# Altium footprint library consubd.PcbLib: 91 footprints (part 5 of 6)
Each footprint in its own frame and in the unit in brackets; x right, y up, seen from the top. Pads: shape width x height; smd on the part's side, far side on the other; paste and mask are expansions set on the pad; w line width, h text height; cw(c..) or ccw(c..) is an arc to the next point about the centre after c.
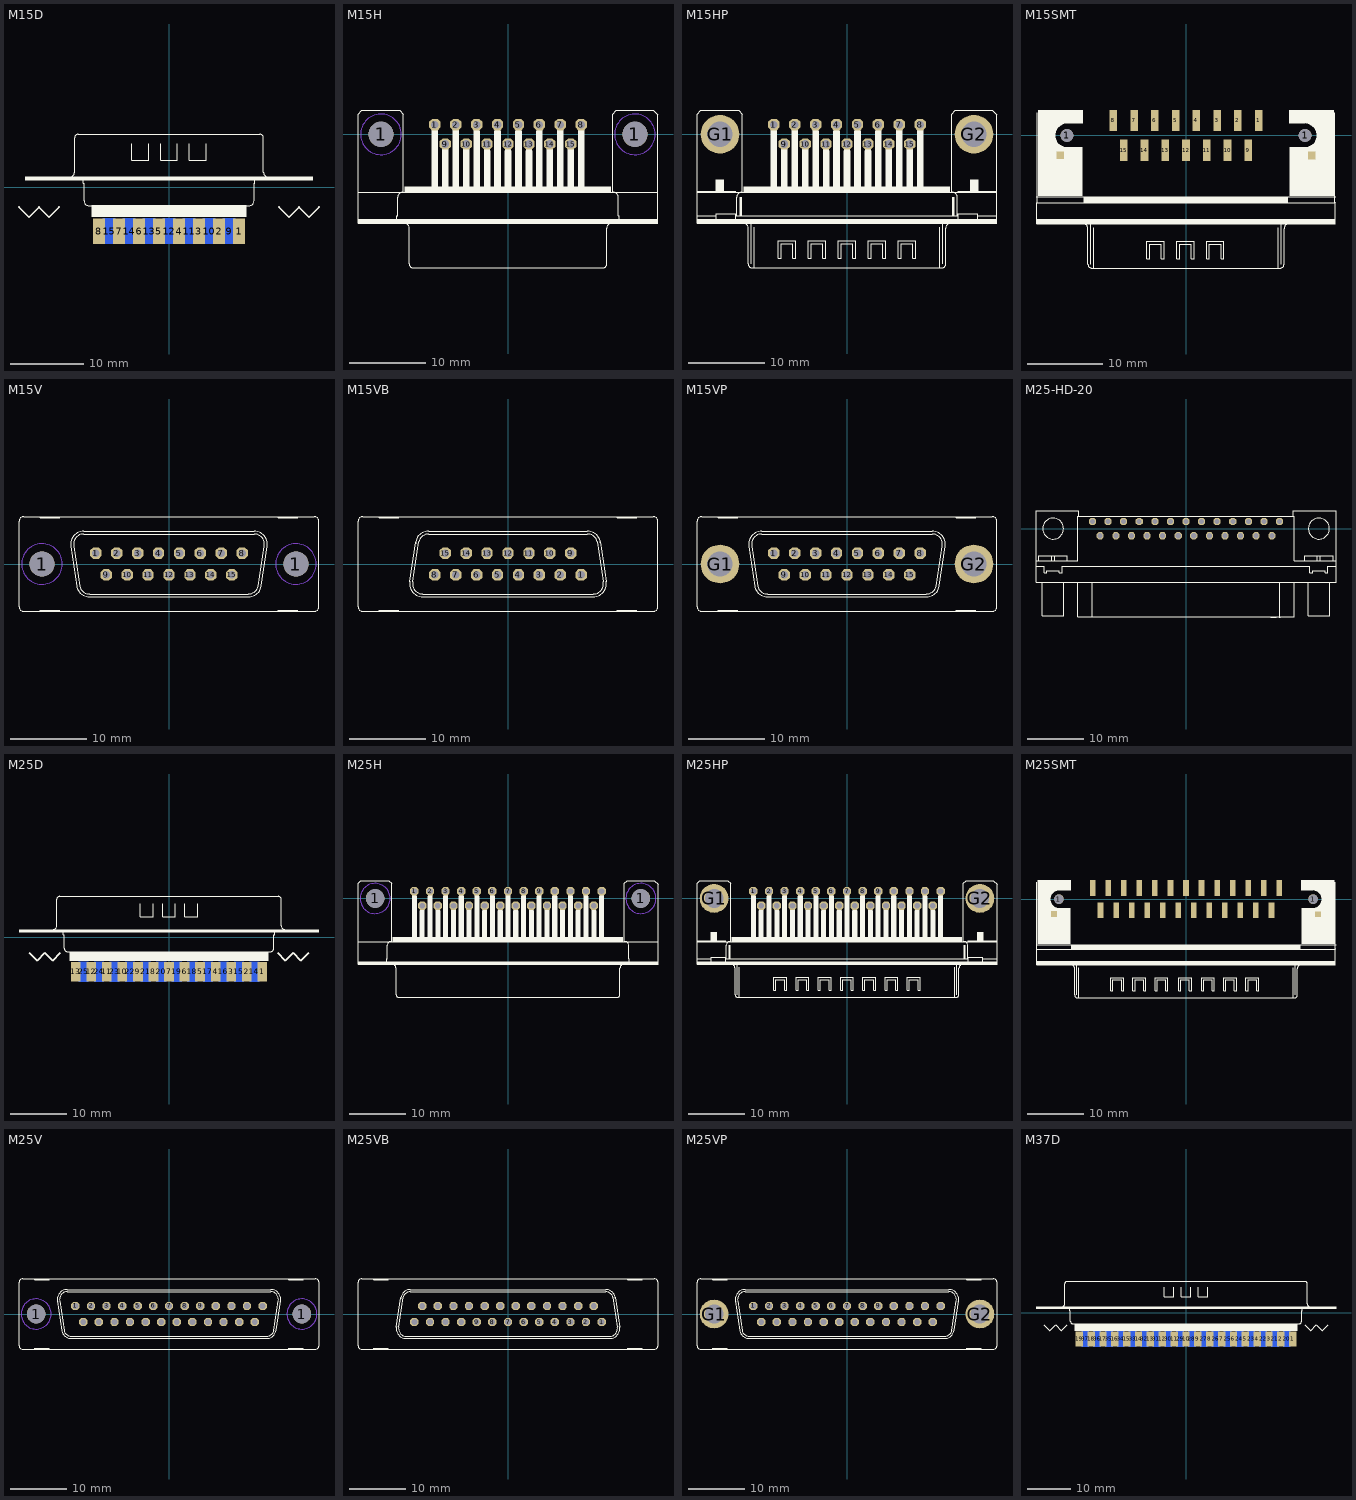
[diagram p4: the footprints below, top view; thin cyan lines are the x and y axes]

## M15D [mil]
pads (15):
  rect 66.93x137.8 smd: 1(378.01,-237.98) 2(270,-237.99) 3(161.99,-237.98) 4(54.01,-237.98) 5(-54.01,-237.98) 6(-161.99,-237.98) 7(-270,-237.99) 8(-378.01,-237.98)
  rect 66.93x137.8 smd far side: 9(324,-238) 10(216,-238) 11(108,-238) 12(0,-238) 13(-108,-238) 14(-216,-238) 15(-324,-238)
Top Overlay:
  region: -417.32,-161.42 -417.32,-98.43 417.32,-98.43 417.32,-161.42
  region: -775,35.56 -775,55.56 775,55.56 775,35.56
  lines w6: -535,55.55 ccw(c-535,80.55) -510,80.55 -510,265.55 cw(c-490,265.55) -490,285.55 490,285.55 cw(c490,265.55) 510,265.55 510,80.55 ccw(c535,80.55) 535,55.55 ; -464,40 -464,20 -459,20 -459,-75 ccw(c-434,-75) -434,-100 ; -434.76,-100 434.76,-100 ; -200,234.45 -200,144.45 -110,144.45 -110,234.45 ; -45,234.45 -45,144.45 45,144.45 45,234.45 ; 110,234.45 110,144.45 200,144.45 200,234.45 ; 434,-100 ccw(c434,-75) 459,-75 459,20 464,20 464,40
  lines w10: -810,-108 -756,-162 -702,-108 -648,-162 -594,-108 ; 594,-108 648,-162 702,-108 756,-162 810,-108

## M15H [mil]
pads (17):
  round 130 hole 130: 1(-656,0) 1(656,0)
  oct 58.09x58.09 hole 40: 1(-378,50) 2(-270,50) 3(-162,50) 4(-54,50) 5(54,50) 6(162,50) 7(270,50) 8(378,50) 9(-324,-50) 10(-216,-50) 11(-108,-50) 12(0,-50) 13(108,-50) 14(216,-50) 15(324,-50)
Top Layer keep-out:
  circle w0: c-656,0 r105
  circle w0: c656,0 r105
Bottom Layer keep-out:
  circle w0: c-656,0 r105
  circle w0: c656,0 r105
Top Overlay:
  region: 362,-270 362,15 394,15 394,-270
  region: 308,-270 308,-85 340,-85 340,-270
  region: 254,-270 254,15 286,15 286,-270
  region: 200,-270 200,-85 232,-85 232,-270
  region: 146,-270 146,15 178,15 178,-270
  region: 92,-270 92,-85 124,-85 124,-270
  region: 38,-270 38,15 70,15 70,-270
  region: -16,-270 -16,-85 16,-85 16,-270
  region: -70,-270 -70,15 -38,15 -38,-270
  region: -124,-270 -124,-85 -92,-85 -92,-270
  region: -178,-270 -178,15 -146,15 -146,-270
  region: -232,-270 -232,-85 -200,-85 -200,-270
  region: -286,-270 -286,15 -254,15 -254,-270
  region: -340,-270 -340,-85 -308,-85 -308,-270
  region: -394,-270 -394,15 -362,15 -362,-270
  region: -530,-300 -530,-270 530,-270 530,-300
  region: -775,-460 -775,-440 775,-440 775,-460
  lines w6: -545,-300 ccw(c-545,-325) -570,-325 -570,-420 -575,-420 -575,-440 ; -535,-460 cw(c-535,-485) -510,-485 -510,-670 ccw(c-490,-670) -490,-690 -480,-690 480,-690 490,-690 ccw(c490,-670) 510,-670 510,-485 cw(c535,-485) 535,-460 ; 545,-300 cw(c545,-325) 570,-325 570,-420 575,-420 575,-440 ; -775,-440 -675,-440 -575,-440 ; -775,-440 -775,-420 -775,-300 ; -775,-440 -775,-460 -495,-460 495,-460 775,-460 775,-440 ; -775,-300 -575,-300 -540,-300 ; -775,-300 -775,-295 -775,105 -755,125 -560,125 -540,105 -540,-300 ; -575,-440 575,-440 ; -540,-300 -530,-300 ; -530,-300 -530,-270 530,-270 530,-300 ; -530,-300 530,-300 ; 530,-300 540,-300 ; 540,-300 540,105 560,125 750,125 775,100 775,-295 775,-300 ; 540,-300 575,-300 775,-300 ; 575,-440 675,-440 775,-440 ; 775,-440 775,-420 775,-300
  lines w32: -378,5 -378,45 ; -324,-95 -324,-55 ; -270,5 -270,45 ; -216,-95 -216,-55 ; -162,5 -162,45 ; -108,-95 -108,-55 ; -54,5 -54,45 ; 0,-95 0,-55 ; 54,5 54,45 ; 108,-95 108,-55 ; 162,5 162,45 ; 216,-95 216,-55 ; 270,5 270,45 ; 324,-95 324,-55 ; 378,5 378,45

## M15HP [mil]
pads (17):
  oct 58.09x58.09 hole 40: 1(-378,50) 2(-270,50) 3(-162,50) 4(-54,50) 5(54,50) 6(162,50) 7(270,50) 8(378,50) 9(-324,-50) 10(-216,-50) 11(-108,-50) 12(0,-50) 13(108,-50) 14(216,-50) 15(324,-50)
  round 200 hole 130: G1(-656,0) G2(656,0)
Top Overlay:
  drawing of 148 lines, arcs and shapes, not listed

## M15SMT [mm]
pads (19):
  round 1.7 hole 1.7: 1(-15.72,0) 1(15.72,0)
  rect 1x2.8 smd: 1(9.59,1.975) 2(6.85,1.975) 3(4.11,1.975) 4(1.37,1.975) 5(-1.37,1.975) 6(-4.11,1.975) 7(-6.85,1.975) 8(-9.59,1.975) 9(8.22,-1.975) 10(5.48,-1.975) 11(2.74,-1.975) 12(0,-1.975) 13(-2.74,-1.975) 14(-5.48,-1.975) 15(-8.22,-1.975)
  rect 1x1 smd: S@1(16.595,-2.65) S@2(-16.595,-2.625)
Top Overlay:
  region: -13.45,-8.92 -13.45,-8.158 13.425,-8.158 13.425,-8.92
  region: -19.65,-11.684 -19.65,-11.04 19.675,-11.04 19.675,-11.684
  region: -19.477,-7.938 -13.67,-7.938 -13.67,-1.587 -15.667,-1.587 -15.823,-1.58 -16.128,-1.519 -16.416,-1.4 -16.675,-1.227 -16.895,-1.007 -17.068,-0.748 -17.187,-0.461 -17.247,-0.156 -17.247,0.156 -17.187,0.461 -17.068,0.748 -16.895,1.007 -16.675,1.227 -16.416,1.4 -16.128,1.519 -15.823,1.58 -15.667,1.587 -13.645,1.587 -13.645,3.325 -19.477,3.325
  region: 19.477,-7.938 13.67,-7.938 13.67,-1.587 15.667,-1.587 15.823,-1.58 16.128,-1.519 16.416,-1.4 16.675,-1.227 16.895,-1.007 17.068,-0.748 17.187,-0.461 17.247,-0.156 17.247,0.156 17.187,0.461 17.068,0.748 16.895,1.007 16.675,1.227 16.416,1.4 16.128,1.519 15.823,1.58 15.667,1.587 13.645,1.587 13.645,3.325 19.477,3.325
  lines w0: -19.798,-8.1 19.798,-8.1
  lines w0.152: -19.62,3.016 -19.62,-8.793 -19.668,-8.92 ; -13.572,-11.684 cw(c-13.572,-12.319) -12.937,-12.319 -12.937,-17.018 ccw(c-12.429,-17.018) -12.429,-17.526 -12.175,-17.526 ; -12.556,-17.018 -12.556,-11.684 ; -12.175,-12.192 -12.175,-17.526 ; 12.175,-12.192 12.175,-17.526 ; 12.556,-17.018 12.556,-11.684 ; 13.572,-11.684 ccw(c13.572,-12.319) 12.937,-12.319 12.937,-17.018 cw(c12.429,-17.018) 12.429,-17.526 12.175,-17.526 ; 19.62,3.016 19.62,-8.793 19.668,-8.92 ; -19.668,-8.92 -19.668,-11.684 -12.556,-11.684 ; -19.668,-8.92 -13.445,-8.92 ; -13.445,-8.92 13.445,-8.92 ; -13.445,-8.92 -13.445,-8.158 13.445,-8.158 13.445,-8.92 ; -12.556,-11.684 12.556,-11.684 ; -12.175,-17.526 12.175,-17.526 ; 12.556,-11.684 19.668,-11.684 19.668,-8.92 ; 13.445,-8.92 19.668,-8.92 ; -5.156,-16.256 -4.775,-16.256 -4.775,-14.351 -3.251,-14.351 -3.251,-16.256 -2.87,-16.256 -2.87,-13.97 -5.156,-13.97 -5.156,-16.256 ; -1.219,-16.256 -0.838,-16.256 -0.838,-14.351 0.686,-14.351 0.686,-16.256 1.067,-16.256 1.067,-13.97 -1.219,-13.97 -1.219,-16.256 ; 2.718,-16.256 3.099,-16.256 3.099,-14.351 4.623,-14.351 4.623,-16.256 5.004,-16.256 5.004,-13.97 2.718,-13.97 2.718,-16.256

## M15V [mil]
pads (17):
  round 130 hole 130: 1(-656,0) 1(656,0)
  oct 58.09x58.09 hole 40: 1(-378,56) 2(-270,56) 3(-162,56) 4(-54,56) 5(54,56) 6(162,56) 7(270,56) 8(378,56) 9(-324,-56) 10(-216,-56) 11(-108,-56) 12(0,-56) 13(108,-56) 14(216,-56) 15(324,-56)
Top Layer keep-out:
  circle w0: c656,0 r105
  circle w0: c-656,0 r105
Bottom Layer keep-out:
  circle w0: c656,0 r105
  circle w0: c-656,0 r105
Top Overlay:
  lines w6: -507,92 -476,-116 ; -506.68,88.67 cw(c-440,102) -440,170 440,170 cw(c440,101.99) 506.69,88.67 ; -492,92 -461,-116 ; -491.97,91.61 cw(c-440,102) -440,155 440,155 cw(c440,101.99) 491.79,90.7 ; -477.4,-110.99 ccw(c-410,-102) -410,-170 410,-170 ccw(c409.99,-102) 477.89,-105.7 ; -461.3,-115.33 ccw(c-410,-101.99) -410,-155 410,-155 ccw(c409.99,-102) 461.52,-114.37 ; 461,-115 492,91 ; 477,-113 507,91 ; -665,-245 -665,-240 -565,-240 -565,-245 ; -665,-245 -565,-245 ; -665,-245 -750,-245 cw(c-750,-220) -775,-220 -775,220 cw(c-750,220) -750,245 -665,245 ; -665,245 -665,240 -565,240 -565,245 ; -665,245 -565,245 ; -565,-245 565,-245 ; -565,245 565,245 ; 565,-245 565,-240 665,-240 665,-245 ; 565,-245 665,-245 ; 565,245 565,240 665,240 665,245 ; 565,245 665,245 ; 665,-245 750,-245 ccw(c750,-220) 775,-220 775,220 ccw(c750,220) 750,245 665,245
Mechanical 8:
  circle w16: c0,-56 r10
  circle w16: c-54,56 r10
  circle w16: c-108,-56 r10
  circle w16: c-162,56 r10
  circle w16: c-216,-56 r10
  circle w16: c54,56 r10
  circle w16: c108,-56 r10
  circle w16: c162,56 r10
  circle w16: c216,-56 r10
  circle w16: c270,56 r10
  circle w16: c378,56 r10
  circle w16: c324,-56 r10
  circle w16: c-270,56 r10
  circle w16: c-378,56 r10
  circle w16: c-324,-56 r10

## M15VB [mil]
pads (15):
  oct 58.09x58.09 hole 40: 1(378,-56) 2(270,-56) 3(162,-56) 4(54,-56) 5(-54,-56) 6(-162,-56) 7(-270,-56) 8(-378,-56) 9(324,56) 10(216,56) 11(108,56) 12(0,56) 13(-108,56) 14(-216,56) 15(-324,56)
Top Overlay:
  lines w6: -507,-91 -477,113 ; -506.69,-88.67 ccw(c-440,-101.99) -440,-170 440,-170 ccw(c440,-102) 506.68,-88.67 ; -492,-91 -461,115 ; -491.79,-90.7 ccw(c-440,-101.99) -440,-155 440,-155 ccw(c440,-102) 491.97,-91.61 ; -477.89,105.7 cw(c-409.99,102) -410,170 410,170 cw(c410,102) 477.4,110.99 ; -461.52,114.37 cw(c-409.99,102) -410,155 410,155 cw(c410,101.99) 461.3,115.33 ; 461,116 492,-92 ; 476,116 507,-92 ; -665,-245 -565,-245 ; -665,-245 -665,-240 -565,-240 -565,-245 ; -665,-245 -750,-245 cw(c-750,-220) -775,-220 -775,220 cw(c-750,220) -750,245 -665,245 ; -665,245 -665,240 -565,240 -565,245 ; -665,245 -565,245 ; -565,-245 565,-245 ; -565,245 565,245 ; 565,-245 665,-245 ; 565,-245 565,-240 665,-240 665,-245 ; 565,245 565,240 665,240 665,245 ; 565,245 665,245 ; 665,-245 750,-245 ccw(c750,-220) 775,-220 775,220 ccw(c750,220) 750,245 665,245
Mechanical 8:
  circle w16: c324,56 r10
  circle w16: c378,-56 r10
  circle w16: c270,-56 r10
  circle w16: c-324,56 r10
  circle w16: c-378,-56 r10
  circle w16: c-270,-56 r10
  circle w16: c-216,56 r10
  circle w16: c-162,-56 r10
  circle w16: c-108,56 r10
  circle w16: c-54,-56 r10
  circle w16: c216,56 r10
  circle w16: c162,-56 r10
  circle w16: c108,56 r10
  circle w16: c54,-56 r10
  circle w16: c0,56 r10

## M15VP [mil]
pads (17):
  oct 58.09x58.09 hole 40: 1(-378,56) 2(-270,56) 3(-162,56) 4(-54,56) 5(54,56) 6(162,56) 7(270,56) 8(378,56) 9(-324,-56) 10(-216,-56) 11(-108,-56) 12(0,-56) 13(108,-56) 14(216,-56) 15(324,-56)
  round 200 hole 130: G1(-656,0) G2(656,0)
Top Overlay:
  lines w6: -507,92 -476,-116 ; -506.68,88.67 cw(c-440,102) -440,170 440,170 cw(c440,101.99) 506.69,88.67 ; -492,92 -461,-116 ; -491.97,91.61 cw(c-440,102) -440,155 440,155 cw(c440,101.99) 491.79,90.7 ; -477.4,-110.99 ccw(c-410,-102) -410,-170 410,-170 ccw(c409.99,-102) 477.89,-105.7 ; -461.3,-115.33 ccw(c-410,-101.99) -410,-155 410,-155 ccw(c409.99,-102) 461.52,-114.37 ; 461,-115 492,91 ; 477,-113 507,91 ; -665,-245 -665,-240 -565,-240 -565,-245 ; -665,-245 -565,-245 ; -665,-245 -750,-245 cw(c-750,-220) -775,-220 -775,220 cw(c-750,220) -750,245 -665,245 ; -665,245 -665,240 -565,240 -565,245 ; -665,245 -565,245 ; -565,-245 565,-245 ; -565,245 565,245 ; 565,-245 565,-240 665,-240 665,-245 ; 565,-245 665,-245 ; 565,245 565,240 665,240 665,245 ; 565,245 665,245 ; 665,-245 750,-245 ccw(c750,-220) 775,-220 775,220 ccw(c750,220) 750,245 665,245
Mechanical 8:
  circle w16: c0,-56 r10
  circle w16: c-54,56 r10
  circle w16: c-108,-56 r10
  circle w16: c-162,56 r10
  circle w16: c-216,-56 r10
  circle w16: c54,56 r10
  circle w16: c108,-56 r10
  circle w16: c162,56 r10
  circle w16: c216,-56 r10
  circle w16: c270,56 r10
  circle w16: c378,56 r10
  circle w16: c324,-56 r10
  circle w16: c-270,56 r10
  circle w16: c-378,56 r10
  circle w16: c-324,-56 r10

## M25-HD-20 [mil]
pads (25):
  oct 49.55x49.55 hole 35.43: 1(-652,50) 2(-543,50) 3(-435,50) 4(-326,50) 5(-217,50) 6(-109,50) 7(0,50) 8(109,50) 9(217,50) 10(326,50) 11(435,50) 12(543,50) 13(652,50) 14(-598,-50) 15(-489,-50) 16(-380,-50) 17(-272,-50) 18(-163,-50) 19(-54,-50) 20(54,-50) 21(163,-50) 22(272,-50) 23(380,-50) 24(489,-50) 25(598,-50)
Top Overlay:
  circle w8: c926,0 r73
  circle w8: c-926,0 r73
  lines w8: -1045,-261.6 -988.5,-261.6 -988.5,-308.6 -968.5,-308.6 -968.5,-292.2 -883.5,-292.2 -883.5,-308.6 -863.5,-308.6 -863.5,-261.6 863.5,-261.6 863.5,-308.6 883.5,-308.6 883.5,-292.2 968.5,-292.2 968.5,-308.6 988.5,-308.6 988.5,-261.6 1045,-261.6 ; -1045,-223.6 -755,-223.6 -755,85.4 755,85.4 755,-223.6 1045,-223.6 ; -1025,-223.6 -1025,-188.6 -827,-188.6 -827,-223.6 ; -1001,-375 -1001,-606.6 -851,-606.6 -851,-375 ; -936,-223.6 -936,-188.6 ; -916,-223.6 -916,-188.6 ; -754.4,-375 -754.4,-614 754.4,-614 754.4,-375 ; -747,85.4 -747,125.4 -1045,125.4 -1045,-375 1045,-375 1045,125.4 747,125.4 747,85.4 ; -654.4,-614 -654.4,-375 ; 590,-614 590,-618.5 597.5,-618.5 597.5,-614 ; 593.75,-618.5 593.75,-614 ; 602.5,-614 602.5,-618.5 627.5,-618.5 627.5,-614 ; 617.5,-618.5 617.5,-614 ; 621.25,-618.5 621.25,-614 ; 650,-614 650,-618.5 657.5,-618.5 657.5,-614 ; 653.75,-618.5 653.75,-614 ; 654.4,-614 654.4,-375 ; 827,-223.6 827,-188.6 1025,-188.6 1025,-223.6 ; 851,-375 851,-606.6 1001,-606.6 1001,-375 ; 916,-223.6 916,-188.6 ; 936,-223.6 936,-188.6

## M25D [mil]
pads (25):
  rect 66.93x137.8 smd: 1(648.01,-237.98) 2(540,-237.99) 3(431.99,-237.98) 4(324.01,-237.98) 5(215.99,-237.98) 6(108.01,-237.98) 7(0,-237.99) 8(-108.01,-237.98) 9(-215.99,-237.98) 10(-324.01,-237.98) 11(-431.99,-237.98) 12(-540,-237.99) 13(-648.01,-237.98)
  rect 66.93x137.8 smd far side: 14(594,-238) 15(486,-238) 16(378,-238) 17(270,-238) 18(162,-238) 19(54,-238) 20(-54,-238) 21(-162,-238) 22(-270,-238) 23(-378,-238) 24(-486,-238) 25(-594,-238)
Top Overlay:
  region: -688.98,-161.42 -688.98,-98.43 688.98,-98.43 688.98,-161.42
  region: -1043.31,35.43 -1043.31,55.12 1043.31,55.12 1043.31,35.43
  lines w6: -805,55.55 ccw(c-805,80.55) -780,80.55 -780,265.55 cw(c-760,265.55) -760,285.55 760,285.55 cw(c760,265.55) 780,265.55 780,80.55 ccw(c805,80.55) 805,55.55 ; -734,40 -734,20 -729,20 -729,-75 ccw(c-704,-75) -704,-100 ; -704.76,-100 704.76,-100 ; -200,234.45 -200,144.45 -110,144.45 -110,234.45 ; -45,234.45 -45,144.45 45,144.45 45,234.45 ; 110,234.45 110,144.45 200,144.45 200,234.45 ; 704,-100 ccw(c704,-75) 729,-75 729,20 734,20 734,40
  lines w10: -972,-108 -918,-162 -864,-108 -810,-162 -756,-108 ; 756,-108 810,-162 864,-108 918,-162 972,-108

## M25H [mil]
pads (27):
  round 130 hole 130: 1(-926,0) 1(926,0)
  oct 58.09x58.09 hole 40: 1(-652,50) 2(-543,50) 3(-435,50) 4(-326,50) 5(-217,50) 6(-109,50) 7(0,50) 8(109,50) 9(217,50) 10(326,50) 11(435,50) 12(543,50) 13(652,50) 14(-598,-50) 15(-489,-50) 16(-380,-50) 17(-272,-50) 18(-163,-50) 19(-54,-50) 20(54,-50) 21(163,-50) 22(272,-50) 23(380,-50) 24(489,-50) 25(598,-50)
Top Layer keep-out:
  circle w0: c926,0 r105
  circle w0: c-926,0 r105
Bottom Layer keep-out:
  circle w0: c926,0 r105
  circle w0: c-926,0 r105
Top Overlay:
  drawing of 100 lines, arcs and shapes, not listed

## M25HP [mil]
pads (27):
  oct 58.09x58.09 hole 40: 1(-652,50) 2(-543,50) 3(-435,50) 4(-326,50) 5(-217,50) 6(-109,50) 7(0,50) 8(109,50) 9(217,50) 10(326,50) 11(435,50) 12(543,50) 13(652,50) 14(-598,-50) 15(-489,-50) 16(-380,-50) 17(-272,-50) 18(-163,-50) 19(-54,-50) 20(54,-50) 21(163,-50) 22(272,-50) 23(380,-50) 24(489,-50) 25(598,-50)
  round 200 hole 130: G1(-926,0) G2(926,0)
Top Overlay:
  drawing of 184 lines, arcs and shapes, not listed

## M25SMT [mm]
pads (29):
  round 1.7 hole 1.7: 1(-22.57,0) 1(22.57,0)
  rect 1x2.8 smd: 1(16.56,1.975) 2(13.8,1.975) 3(11.04,1.975) 4(8.28,1.975) 5(5.52,1.975) 6(2.76,1.975) 7(0,1.975) 8(-2.76,1.975) 9(-5.52,1.975) 10(-8.28,1.975) 11(-11.04,1.975) 12(-13.8,1.975) 13(-16.56,1.975) 14(15.18,-1.975) 15(12.42,-1.975) 16(9.66,-1.975) 17(6.9,-1.975) 18(4.14,-1.975) 19(1.38,-1.975) 20(-1.38,-1.975) 21(-4.14,-1.975) 22(-6.9,-1.975) 23(-9.66,-1.975) 24(-12.42,-1.975) 25(-15.18,-1.975)
  rect 1x1 smd: S@1(23.445,-2.65) S@2(-23.445,-2.625)
Top Overlay:
  region: 26.328,-7.938 20.52,-7.938 20.52,-1.587 22.518,-1.587 22.673,-1.58 22.978,-1.519 23.266,-1.4 23.525,-1.227 23.745,-1.007 23.918,-0.748 24.037,-0.461 24.097,-0.156 24.097,0.156 24.037,0.461 23.918,0.748 23.745,1.007 23.525,1.227 23.266,1.4 22.978,1.519 22.673,1.58 22.518,1.587 20.495,1.587 20.495,3.325 26.328,3.325
  region: -26.328,-7.938 -20.52,-7.938 -20.52,-1.587 -22.518,-1.587 -22.673,-1.58 -22.978,-1.519 -23.266,-1.4 -23.525,-1.227 -23.745,-1.007 -23.918,-0.748 -24.037,-0.461 -24.097,-0.156 -24.097,0.156 -24.037,0.461 -23.918,0.748 -23.745,1.007 -23.525,1.227 -23.266,1.4 -22.978,1.519 -22.673,1.58 -22.518,1.587 -20.495,1.587 -20.495,3.325 -26.328,3.325
  region: -26.55,-11.684 -26.55,-11.04 26.525,-11.04 26.525,-11.684
  region: -20.3,-8.92 -20.3,-8.158 20.275,-8.158 20.275,-8.92
  lines w0: -26.647,-8.1 26.647,-8.1
  lines w0.152: -26.47,3.016 -26.47,-8.793 -26.518,-8.92 ; -20.422,-11.684 cw(c-20.422,-12.319) -19.787,-12.319 -19.787,-17.018 ccw(c-19.279,-17.018) -19.279,-17.526 -19.025,-17.526 ; -19.406,-17.018 -19.406,-11.684 ; -19.025,-12.192 -19.025,-17.526 ; 19.025,-12.192 19.025,-17.526 ; 19.406,-17.018 19.406,-11.684 ; 20.422,-11.684 ccw(c20.422,-12.319) 19.787,-12.319 19.787,-17.018 cw(c19.279,-17.018) 19.279,-17.526 19.025,-17.526 ; 26.47,3.016 26.47,-8.793 26.518,-8.92 ; -26.518,-8.92 -20.295,-8.92 ; -26.518,-8.92 -26.518,-11.684 -19.406,-11.684 ; -20.295,-8.92 -20.295,-8.158 20.295,-8.158 20.295,-8.92 ; -20.295,-8.92 20.295,-8.92 ; -19.406,-11.684 19.406,-11.684 ; -19.025,-17.526 19.025,-17.526 ; 19.406,-11.684 26.518,-11.684 26.518,-8.92 ; 20.295,-8.92 26.518,-8.92 ; -13.36,-16.256 -13.36,-13.97 -11.074,-13.97 -11.074,-16.256 -11.455,-16.256 -11.455,-14.351 -12.979,-14.351 -12.979,-16.256 -13.36,-16.256 ; -9.423,-16.256 -9.423,-13.97 -7.137,-13.97 -7.137,-16.256 -7.518,-16.256 -7.518,-14.351 -9.042,-14.351 -9.042,-16.256 -9.423,-16.256 ; -5.486,-16.256 -5.486,-13.97 -3.2,-13.97 -3.2,-16.256 -3.581,-16.256 -3.581,-14.351 -5.105,-14.351 -5.105,-16.256 -5.486,-16.256 ; -1.295,-16.256 -1.295,-13.97 0.991,-13.97 0.991,-16.256 0.61,-16.256 0.61,-14.351 -0.914,-14.351 -0.914,-16.256 -1.295,-16.256 ; 2.769,-16.256 2.769,-13.97 5.055,-13.97 5.055,-16.256 4.674,-16.256 4.674,-14.351 3.15,-14.351 3.15,-16.256 2.769,-16.256 ; 6.706,-16.256 6.706,-13.97 8.992,-13.97 8.992,-16.256 8.611,-16.256 8.611,-14.351 7.087,-14.351 7.087,-16.256 6.706,-16.256 ; 10.643,-16.256 10.643,-13.97 12.929,-13.97 12.929,-16.256 12.548,-16.256 12.548,-14.351 11.024,-14.351 11.024,-16.256 10.643,-16.256

## M25V [mil]
pads (27):
  round 130 hole 130: 1(-926,0) 1(926,0)
  oct 58.09x58.09 hole 40: 1(-652,56) 2(-543,56) 3(-435,56) 4(-326,56) 5(-217,56) 6(-109,56) 7(0,56) 8(109,56) 9(217,56) 10(326,56) 11(435,56) 12(543,56) 13(652,56) 14(-598,-56) 15(-489,-56) 16(-380,-56) 17(-272,-56) 18(-163,-56) 19(-54,-56) 20(54,-56) 21(163,-56) 22(272,-56) 23(380,-56) 24(489,-56) 25(598,-56)
Top Layer keep-out:
  circle w0: c-926,0 r105
  circle w0: c926,0 r105
Bottom Layer keep-out:
  circle w0: c-926,0 r105
  circle w0: c926,0 r105
Top Overlay:
  lines w6: -777,92 -746,-116 ; -776.68,88.67 cw(c-710,102) -710,170 710,170 cw(c710,101.99) 776.69,88.67 ; -762,92 -731,-116 ; -761.97,91.61 cw(c-710,102) -710,155 710,155 cw(c710,101.99) 761.79,90.7 ; -747.4,-110.99 ccw(c-680,-102) -680,-170 680,-170 ccw(c679.99,-102) 747.89,-105.7 ; -731.3,-115.33 ccw(c-680,-101.99) -680,-155 680,-155 ccw(c679.99,-102) 731.52,-114.37 ; 731,-115 762,91 ; 747,-113 777,91 ; -935,-245 -1020,-245 cw(c-1020,-220) -1045,-220 -1045,220 cw(c-1020,220) -1020,245 -935,245 ; -935,-245 -835,-245 ; -935,-245 -935,-240 -835,-240 -835,-245 ; -935,245 -835,245 ; -935,245 -935,240 -835,240 -835,245 ; -835,-245 835,-245 ; -835,245 835,245 ; 835,-245 935,-245 ; 835,-245 835,-240 935,-240 935,-245 ; 835,245 935,245 ; 835,245 835,240 935,240 935,245 ; 935,-245 1020,-245 ccw(c1020,-220) 1045,-220 1045,220 ccw(c1020,220) 1020,245 935,245
Mechanical 8:
  circle w16: c-598,-56 r10
  circle w16: c-489,-56 r10
  circle w16: c-652,56 r10
  circle w16: c-543,56 r10
  circle w16: c-435,56 r10
  circle w16: c-380,-56 r10
  circle w16: c-272,-56 r10
  circle w16: c-326,56 r10
  circle w16: c598,-56 r10
  circle w16: c652,56 r10
  circle w16: c543,56 r10
  circle w16: c489,-56 r10
  circle w16: c435,56 r10
  circle w16: c380,-56 r10
  circle w16: c326,56 r10
  circle w16: c272,-56 r10
  circle w16: c163,-56 r10
  circle w16: c217,56 r10
  circle w16: c109,56 r10
  circle w16: c54,-56 r10
  circle w16: c-54,-56 r10
  circle w16: c0,56 r10
  circle w16: c-217,56 r10
  circle w16: c-163,-56 r10
  circle w16: c-109,56 r10

## M25VB [mil]
pads (25):
  oct 58.09x58.09 hole 40: 1(652,-56) 2(543,-56) 3(435,-56) 4(326,-56) 5(217,-56) 6(109,-56) 7(0,-56) 8(-109,-56) 9(-217,-56) 10(-326,-56) 11(-435,-56) 12(-543,-56) 13(-652,-56) 14(598,56) 15(489,56) 16(380,56) 17(272,56) 18(163,56) 19(54,56) 20(-54,56) 21(-163,56) 22(-272,56) 23(-380,56) 24(-489,56) 25(-598,56)
Top Overlay:
  lines w6: -777,-91 -747,113 ; -776.69,-88.67 ccw(c-710,-101.99) -710,-170 710,-170 ccw(c710,-102) 776.68,-88.67 ; -762,-91 -731,115 ; -761.79,-90.7 ccw(c-710,-101.99) -710,-155 710,-155 ccw(c710,-102) 761.97,-91.61 ; -747.89,105.7 cw(c-679.99,102) -680,170 680,170 cw(c680,102) 747.4,110.99 ; -731.52,114.37 cw(c-679.99,102) -680,155 680,155 cw(c680,101.99) 731.3,115.33 ; 731,116 762,-92 ; 746,116 777,-92 ; -935,-245 -835,-245 ; -935,-245 -935,-240 -835,-240 -835,-245 ; -935,-245 -1020,-245 cw(c-1020,-220) -1045,-220 -1045,220 cw(c-1020,220) -1020,245 -935,245 ; -935,245 -935,240 -835,240 -835,245 ; -935,245 -835,245 ; -835,-245 835,-245 ; -835,245 835,245 ; 835,-245 935,-245 ; 835,-245 835,-240 935,-240 935,-245 ; 835,245 835,240 935,240 935,245 ; 835,245 935,245 ; 935,-245 1020,-245 ccw(c1020,-220) 1045,-220 1045,220 ccw(c1020,220) 1020,245 935,245
Mechanical 8:
  circle w16: c598,56 r10
  circle w16: c489,56 r10
  circle w16: c652,-56 r10
  circle w16: c543,-56 r10
  circle w16: c435,-56 r10
  circle w16: c380,56 r10
  circle w16: c272,56 r10
  circle w16: c326,-56 r10
  circle w16: c-598,56 r10
  circle w16: c-652,-56 r10
  circle w16: c-543,-56 r10
  circle w16: c-489,56 r10
  circle w16: c-435,-56 r10
  circle w16: c-380,56 r10
  circle w16: c-326,-56 r10
  circle w16: c-272,56 r10
  circle w16: c-163,56 r10
  circle w16: c-217,-56 r10
  circle w16: c-109,-56 r10
  circle w16: c-54,56 r10
  circle w16: c54,56 r10
  circle w16: c0,-56 r10
  circle w16: c217,-56 r10
  circle w16: c163,56 r10
  circle w16: c109,-56 r10

## M25VP [mil]
pads (27):
  oct 58.09x58.09 hole 40: 1(-652,56) 2(-543,56) 3(-435,56) 4(-326,56) 5(-217,56) 6(-109,56) 7(0,56) 8(109,56) 9(217,56) 10(326,56) 11(435,56) 12(543,56) 13(652,56) 14(-598,-56) 15(-489,-56) 16(-380,-56) 17(-272,-56) 18(-163,-56) 19(-54,-56) 20(54,-56) 21(163,-56) 22(272,-56) 23(380,-56) 24(489,-56) 25(598,-56)
  round 200 hole 130: G1(-926,0) G2(926,0)
Top Overlay:
  lines w6: -777,92 -746,-116 ; -776.68,88.67 cw(c-710,102) -710,170 710,170 cw(c710,101.99) 776.69,88.67 ; -762,92 -731,-116 ; -761.97,91.61 cw(c-710,102) -710,155 710,155 cw(c710,101.99) 761.79,90.7 ; -747.4,-110.99 ccw(c-680,-102) -680,-170 680,-170 ccw(c679.99,-102) 747.89,-105.7 ; -731.3,-115.33 ccw(c-680,-101.99) -680,-155 680,-155 ccw(c679.99,-102) 731.52,-114.37 ; 731,-115 762,91 ; 747,-113 777,91 ; -935,-245 -1020,-245 cw(c-1020,-220) -1045,-220 -1045,220 cw(c-1020,220) -1020,245 -935,245 ; -935,-245 -835,-245 ; -935,-245 -935,-240 -835,-240 -835,-245 ; -935,245 -835,245 ; -935,245 -935,240 -835,240 -835,245 ; -835,-245 835,-245 ; -835,245 835,245 ; 835,-245 935,-245 ; 835,-245 835,-240 935,-240 935,-245 ; 835,245 935,245 ; 835,245 835,240 935,240 935,245 ; 935,-245 1020,-245 ccw(c1020,-220) 1045,-220 1045,220 ccw(c1020,220) 1020,245 935,245
Mechanical 8:
  circle w16: c-598,-56 r10
  circle w16: c-489,-56 r10
  circle w16: c-652,56 r10
  circle w16: c-543,56 r10
  circle w16: c-435,56 r10
  circle w16: c-380,-56 r10
  circle w16: c-272,-56 r10
  circle w16: c-326,56 r10
  circle w16: c598,-56 r10
  circle w16: c652,56 r10
  circle w16: c543,56 r10
  circle w16: c489,-56 r10
  circle w16: c435,56 r10
  circle w16: c380,-56 r10
  circle w16: c326,56 r10
  circle w16: c272,-56 r10
  circle w16: c163,-56 r10
  circle w16: c217,56 r10
  circle w16: c109,56 r10
  circle w16: c54,-56 r10
  circle w16: c-54,-56 r10
  circle w16: c0,56 r10
  circle w16: c-217,56 r10
  circle w16: c-163,-56 r10
  circle w16: c-109,56 r10

## M37D [mil]
pads (37):
  rect 66.93x137.8 smd: 1(972.01,-237.99) 2(864.01,-237.98) 3(755.99,-237.98) 4(648.01,-237.98) 5(540,-237.99) 6(431.99,-237.98) 7(324.01,-237.98) 8(215.99,-237.98) 9(108.01,-237.98) 10(0,-237.99) 11(-108.01,-237.98) 12(-215.99,-237.98) 13(-324.01,-237.98) 14(-431.99,-237.98) 15(-540,-237.99) 16(-648.01,-237.98) 17(-755.99,-237.98) 18(-864.01,-237.98) 19(-972.01,-237.99)
  rect 66.93x137.8 smd far side: 20(918,-238) 21(810,-238) 22(702,-238) 23(594,-238) 24(486,-238) 25(378,-238) 26(270,-238) 27(162,-238) 28(54,-238) 29(-54,-238) 30(-162,-238) 31(-270,-238) 32(-378,-238) 33(-486,-238) 34(-594,-238) 35(-702,-238) 36(-810,-238) 37(-918,-238)
Top Overlay:
  region: -1366.14,35.43 -1366.14,55.12 1366.14,55.12 1366.14,35.43
  region: -1011.81,-161.42 -1011.81,-98.43 1011.81,-98.43 1011.81,-161.42
  lines w6: -1129.02,55.55 ccw(c-1129.02,80.55) -1104.02,80.55 -1104.02,265.55 cw(c-1084.02,265.55) -1084.02,285.55 1084.02,285.55 cw(c1084.02,265.55) 1104.02,265.55 1104.02,80.55 ccw(c1129.02,80.55) 1129.02,55.55 ; -1058,40 -1058,20 -1053,20 -1053,-75 ccw(c-1028,-75) -1028,-100 ; -1028.74,-100 1028.74,-100 ; -200,234.45 -200,144.45 -110,144.45 -110,234.45 ; -45,234.45 -45,144.45 45,144.45 45,234.45 ; 110,234.45 110,144.45 200,144.45 200,234.45 ; 1028,-100 ccw(c1028,-75) 1053,-75 1053,20 1058,20 1058,40
  lines w10: -1296,-108 -1242,-162 -1188,-108 -1134,-162 -1080,-108 ; 1080,-108 1134,-162 1188,-108 1242,-162 1296,-108